# EAGLE library part LM60440ARPKR (library U-TI-LM6044DRPKR-buck)
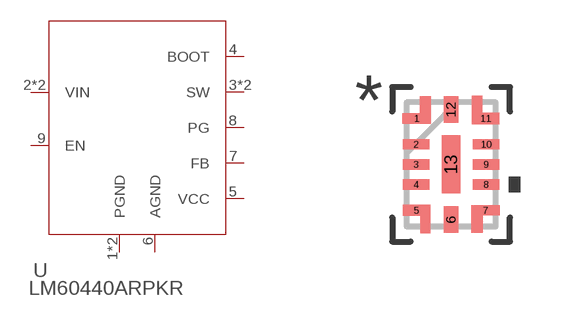
[diagram p0: symbol with the pads of WQFN-HR-13_RPK_TEX; footprint WQFN-HR-13_RPK_TEX]

Designator prefix U

## LM60440ARPKR (BUILT_BY: EMA_Cory; COPYRIGHT: Copyright (C) 2018 Accelerated Designs. All rights reserved; DATASHEET: https://www.ti.com/lit/ds/symlink/lm60430.pdf?ts=1600199768858&ref_url=https%253A%252F%252Fwww.ti.com%252Fsitesearch%252Fdocs%252Funiversalsearch.tsp%253FsearchTerm%253DLM60440ARPKR; MANUFACTURER_PART_NUMBER: LM60440ARPKR; SOURCELIBRARY: TI_2020-09-15; VENDOR: Texas Instruments)  [WQFN-HR-13_RPK_TEX]
1  PGND  pas
2  VIN  pwr
3  SW  pwr
4  BOOT  pwr
5  VCC  pwr
6  AGND  pas
7  FB  pas
8  PG  pas
9  EN  pas
10  VIN  pwr
11  PGND  pas
12  SW  pwr

## Footprint WQFN-HR-13_RPK_TEX (pad centres in mm)
smd 0.686 x 0.254: 1 -0.864,1.149; 5 -0.864,-1.149; 7 0.864,-1.149; 11 0.864,1.149
smd 0.66 x 0.254: 2 -0.876,0.502; 3 -0.876,0; 4 -0.876,-0.502; 8 0.876,-0.502; 9 0.876,0; 10 0.876,0.502
smd 0.356 x 0.66: 6 0,-1.375; 12 0,1.375
smd 0.457 x 1.448: 13 0,0